# Altium schematic symbol library Schlib1.SchLib: 1 symbol
Pins are listed as number, name and electrical type; pins without a type are passive.

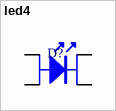
[diagram p0: symbol led4]

## led4
designator D?  (value not drawn)
pins: 1, 2, 3, 4